# EAGLE library part 74LS189 (library SAP-1)
64-Bit Random Access Memory with 3-STATE Outputs
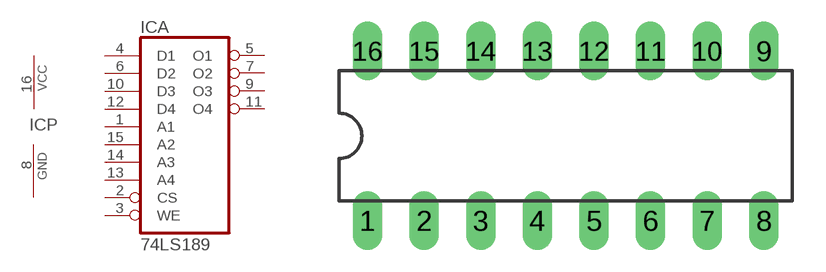
[diagram p1: symbol with the pads of DIL16; footprint DIL16]

Designator prefix IC; gates A=74189 P=PWRN

## 74LS189LSN  [DIL16]
1  A:A1  in
2  A:CS  in
3  A:WE  in
4  A:D1  in
5  A:O1  out
6  A:D2  in
7  A:O2  out
8  P:GND  pwr
9  A:O3  out
10  A:D3  in
11  A:O4  out
12  A:D4  in
13  A:A4  in
14  A:A3  in
15  A:A2  in
16  P:VCC  pwr

## Footprint DIL16 (pad centres in mm)
Dual In Line Package
drill 0.813 long: 1 -8.89,-3.81; 2 -6.35,-3.81; 3 -3.81,-3.81; 4 -1.27,-3.81; 5 1.27,-3.81; 6 3.81,-3.81; 7 6.35,-3.81; 8 8.89,-3.81; 9 8.89,3.81; 10 6.35,3.81; 11 3.81,3.81; 12 1.27,3.81; 13 -1.27,3.81; 14 -3.81,3.81; 15 -6.35,3.81; 16 -8.89,3.81